# Altium footprint library AD835AR.PcbLib: 3 footprints
Each footprint in its own frame and in the unit in brackets; x right, y up, seen from the top. Pads: shape width x height; smd on the part's side, far side on the other; paste and mask are expansions set on the pad; w line width, h text height; cw(c..) or ccw(c..) is an arc to the next point about the centre after c.
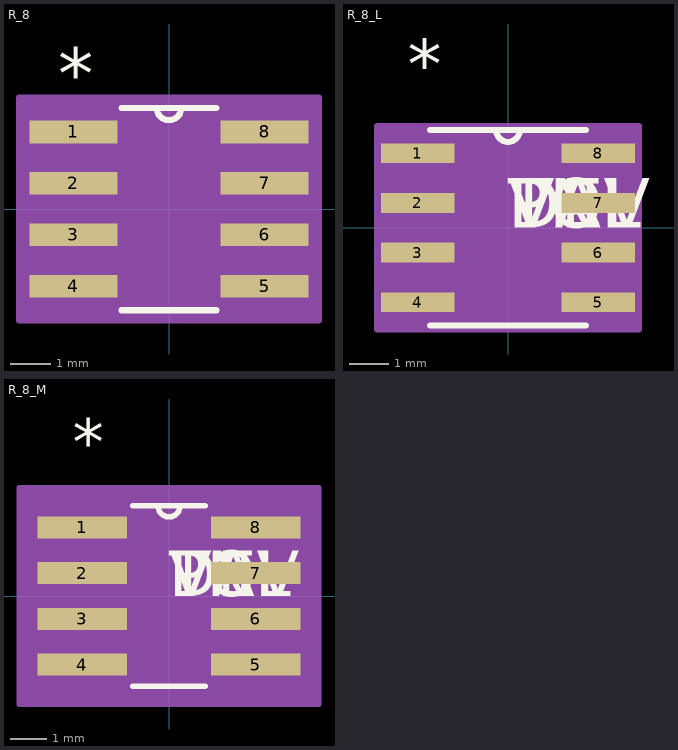
[diagram p0: the footprints below, top view; thin cyan lines are the x and y axes]

## R_8 [mil]
pads (8):
  rect 86x22 smd: 1(-93,75) 2(-93,25) 3(-93,-25) 4(-93,-75) 5(93,-75) 6(93,-25) 7(93,25) 8(93,75)
Top Overlay:
  lines w6: -46.08,-98.5 46.08,-98.5 ; -46.08,98.5 46.08,98.5 ; -12,98.5 ccw(c0,98.5) 12,98.5
  text "*" at -108,107 h50
Mechanical 13:
  lines w0: -12,98.5 ccw(c0,98.5) 12,98.5
  text "*" at -108,107 h50
Mechanical 15:
  region: 146,-108.5 -146,-108.5 -146,108.5 146,108.5
  lines w6: -146,-108.5 -146,108.5 146,108.5 146,-108.5 -146,-108.5
3D body: height 69.1, standoff 0, extent -122,-98.5 122,98.5

## R_8_L [mil]
pads (8):
  rect 74x20 smd: 1(-91,75) 2(-91,25) 3(-91,-25) 4(-91,-75) 5(91,-75) 6(91,-25) 7(91,25) 8(91,75)
Top Overlay:
  lines w6: -78.5,-98.5 78.5,-98.5 ; -78.5,98.5 78.5,98.5 ; -12,98.5 ccw(c0,98.5) 12,98.5
  text "TOL" at 0,0 h50
  text "VAL" at 0,0 h50
  text "DEV" at 0,0 h50
  text "PN" at 0,0 h50
  text "*" at -101,140 h50
Mechanical 13:
  lines w0: -12,98.5 ccw(c0,98.5) 12,98.5
  text "RefDes2" at 0,0 h50
  text "*" at -101,140 h50
Mechanical 15:
  region: 132,-102.5 -132,-102.5 -132,102.5 132,102.5
  lines w6: -132,-102.5 132,-102.5 132,102.5 -132,102.5 -132,-102.5
3D body: height 69.1, standoff 0, extent -122,-98.5 122,98.5

## R_8_M [mil]
pads (8):
  rect 98x24 smd: 1(-95,75) 2(-95,25) 3(-95,-25) 4(-95,-75) 5(95,-75) 6(95,-25) 7(95,25) 8(95,75)
Top Overlay:
  lines w6: -39.73,-98.5 39.73,-98.5 ; -39.73,98.5 39.73,98.5 ; -12,98.5 ccw(c0,98.5) 12,98.5
  text "*" at -105,144 h50
  text "PN" at 0,0 h50
  text "DEV" at 0,0 h50
  text "VAL" at 0,0 h50
  text "TOL" at 0,0 h50
Mechanical 13:
  lines w0: -12,98.5 ccw(c0,98.5) 12,98.5
  text "*" at -105,144 h50
  text "RefDes2" at 0,0 h50
Mechanical 15:
  region: 164,-118.5 -164,-118.5 -164,118.5 164,118.5
  lines w6: -164,-118.5 -164,118.5 164,118.5 164,-118.5 -164,-118.5
3D body: height 69.1, standoff 0, extent -122,-98.5 122,98.5